# Altium footprint library Pathos.PcbLib: 67 footprints (part 2 of 5)
Each footprint in its own frame and in the unit in brackets; x right, y up, seen from the top. Pads: shape width x height; smd on the part's side, far side on the other; paste and mask are expansions set on the pad; w line width, h text height; cw(c..) or ccw(c..) is an arc to the next point about the centre after c.
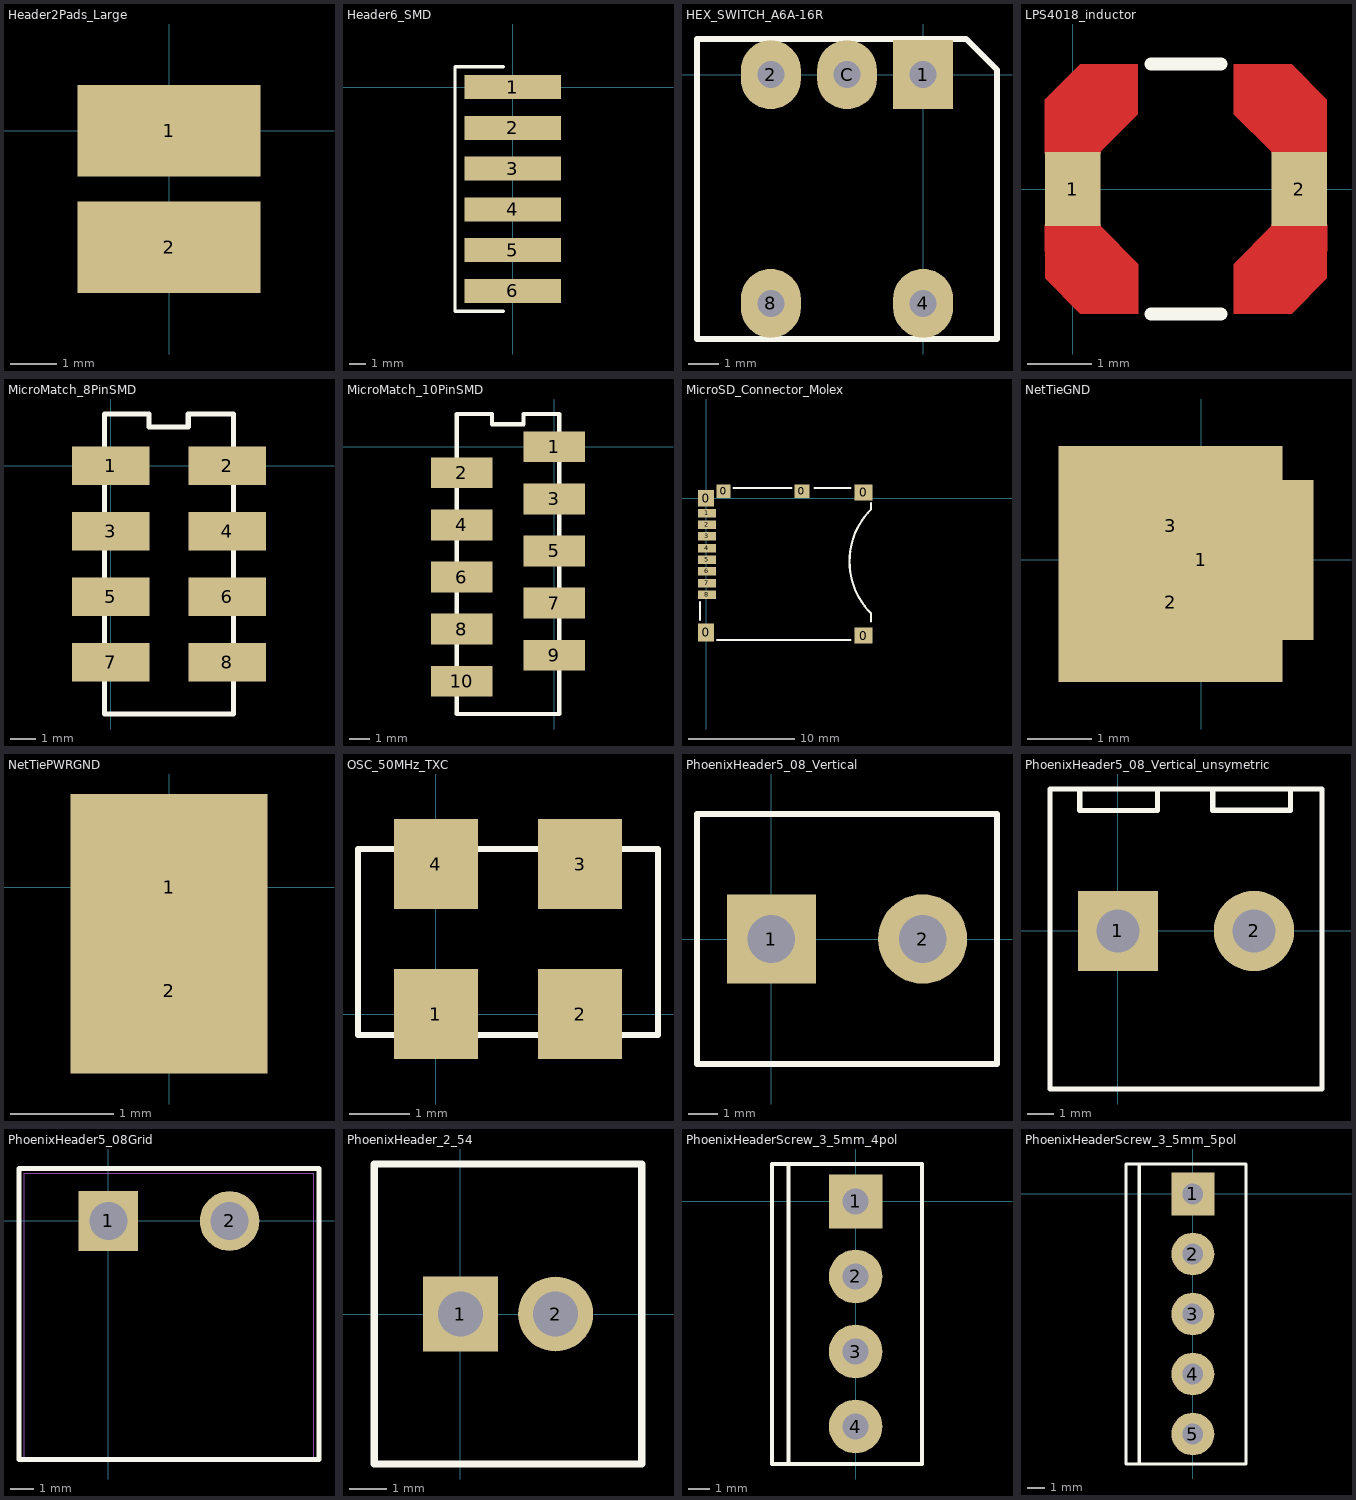
[diagram p1: the footprints below, top view; thin cyan lines are the x and y axes]

## Header2Pads_Large [mm]
pads (2):
  rect 4x2 smd: 1(0,0) 2(0,-2.54)

## Header6_SMD [mm]
pads (6):
  rect 6x1.5 smd: 1(0,0) 2(0,-2.54) 3(0,-5.08) 4(0,-7.62) 5(0,-10.16) 6(0,-12.7)
Top Overlay:
  lines w0.2: -0.6,-13.97 -3.6,-13.97 -3.6,1.27 -0.6,1.27
3D body: height 10, standoff 0, extent -3.6,-13.97 -0.6,1.27

## HEX_SWITCH_A6A-16R [mm]
pads (5):
  rect 2x2.3 hole 0.9: 1(0,0)
  oval 2x2.3 hole 0.9: 2(-5.08,0) 4(0,-7.62) 8(-5.08,-7.62) C(-2.54,0)
Top Overlay:
  lines w0.2: -7.54,-8.81 -7.54,1.19 1.433,1.19 2.46,0.163 2.46,-8.81 -7.54,-8.81

## LPS4018_inductor [mm]
pads (2):
  rect 0.87x1.15 smd: 1(0,0) 2(3.53,0)
Top Layer:
  region: 3.962,0.575 3.962,1.395 3.412,1.945 2.512,1.945 2.512,1.17 3.092,0.59 3.092,0.575
  region: 3.965,-0.559 3.962,-1.395 3.412,-1.945 2.512,-1.945 2.512,-1.17 3.095,-0.584 3.095,-0.559
  region: -0.435,0.559 -0.435,1.395 0.115,1.945 1.015,1.945 1.015,1.17 0.435,0.59 0.435,0.559
  region: -0.435,-0.559 -0.432,-1.395 0.118,-1.945 1.018,-1.945 1.018,-1.17 0.435,-0.584 0.435,-0.559
Top Overlay:
  lines w0.2: 1.219,-1.95 2.311,-1.95 ; 1.219,1.95 2.311,1.95
3D body: height 1.7, standoff 0, extent -0.185,-1.956 3.715,1.95

## MicroMatch_8PinSMD [mm]
pads (8):
  rect 3x1.5 smd: 1(0,0) 2(4.5,0) 3(0,-2.54) 4(4.5,-2.54) 5(0,-5.08) 6(4.5,-5.08) 7(0,-7.62) 8(4.5,-7.62)
Top Overlay:
  lines w0.2: 1.473,1.499 1.473,2 -0.25,2 -0.25,-9.62 4.75,-9.62 4.75,2 2.998,2 2.998,1.499 1.501,1.499
3D body: height 5.3, standoff 0, extent -0.25,-9.62 4.75,2

## MicroMatch_10PinSMD [mm]
pads (10):
  rect 3x1.5 smd: 1(0,0) 2(-4.5,-1.27) 3(0,-2.54) 4(-4.5,-3.81) 5(0,-5.08) 6(-4.5,-6.35) 7(0,-7.62) 8(-4.5,-8.89) 9(0,-10.16) 10(-4.5,-11.43)
Top Overlay:
  lines w0.2: -1.53,1.099 -3.027,1.099 -3.027,1.6 -4.75,1.6 -4.75,-13.03 0.25,-13.03 0.25,1.6 -1.502,1.6 -1.502,1.099
3D body: height 5.3, standoff 0, extent -4.75,-13.03 0.25,1.6

## MicroSD_Connector_Molex [mm]
pads (14):
  rect 1.5x1.7 smd: 0(0,-12.65)
  rect 1.5x1.6 smd: 0(0,0)
  rect 1.3x1.29 smd: 0(1.65,0.655)
  rect 1.4x1.29 smd: 0(9.05,0.655)
  rect 1.7x1.5 smd: 0(14.85,-12.95) 0(14.85,0.55)
  rect 1.68x0.8 smd: 1(0.09,-1.4) 2(0.09,-2.5) 3(0.09,-3.6) 4(0.09,-4.7) 5(0.09,-5.8) 6(0.09,-6.9) 7(0.09,-8) 8(0.09,-9.1)
Top Overlay:
  lines w0.2: -0.559,-11.481 -0.559,-9.781 ; 1.041,-13.35 13.64,-13.35 ; 2.616,0.95 8.077,0.95 ; 10.211,0.95 13.614,0.95 ; 15.57,-11.608 15.57,-10.871 cw(c20.485,-5.956) 15.57,-1.041 15.57,-0.457
3D body: height 1.8, standoff 0, extent -0.559,-13.335 15.57,0.94

## NetTieGND [mm]
pads (3):
  rect 3.5x2.5 smd: 1(0,0) 2(-0.483,-0.66) 3(-0.483,0.533)

## NetTiePWRGND [mm]
pads (2):
  rect 1.9x1.8 smd: 1(0,0)
  rect 1.9x1.6 smd: 2(0,-1)

## OSC_50MHz_TXC [mm]
pads (4):
  rect 1.4x1.5 smd: 1(0,0) 2(2.4,0) 3(2.4,2.5) 4(0,2.5)
Top Overlay:
  lines w0.1: -1.3,-0.35 3.7,-0.35 3.7,2.75 -1.3,2.75 -1.3,-0.35

## PhoenixHeader5_08_Vertical [mm]
pads (2):
  rect 3x3 hole 1.6: 1(0,0)
  round 3 hole 1.6: 2(5.08,0)
Top Overlay:
  lines w0.2: -2.5,-4.2 -2.5,4.2 7.58,4.2 7.58,-4.2 -2.5,-4.2

## PhoenixHeader5_08_Vertical_unsymetric [mm]
pads (2):
  rect 3x3 hole 1.6: 1(0,0)
  round 3 hole 1.6: 2(5.08,0)
Top Overlay:
  lines w0.2: -1.433,5.3 -1.433,4.496 1.477,4.496 1.477,5.283 ; 3.532,5.3 3.532,4.513 6.442,4.513 6.442,5.3 ; -2.54,-5.9 7.62,-5.9 7.62,5.3 -2.54,5.3 -2.54,-5.9
3D body: height 18, standoff 0, extent -2.54,-5.9 7.62,5.3

## PhoenixHeader5_08Grid [mm]
pads (2):
  rect 2.5x2.5 hole 1.6: 1(0,0)
  round 2.5 hole 1.6: 2(5.08,0)
Top Overlay:
  lines w0.2: -3.75,-10 -3.75,2.2 8.83,2.2 8.83,-10 -3.75,-10
Mechanical 2:
  lines w0.001: -3.54,-10 -3.54,2 8.62,2 8.62,-10 -3.54,-10
3D body: height 8.37, standoff -3.48, extent -3.7,-10 8.28,2

## PhoenixHeader_2_54 [mm]
pads (2):
  rect 2x2 hole 1.2: 1(0,0)
  round 2 hole 1.2: 2(2.54,0)
Top Overlay:
  lines w0.2: -2.3,-4 -2.3,4 4.84,4 4.84,-4 -2.3,-4
3D body: height 8.5, standoff 0, extent -2.3,-4 4.84,4

## PhoenixHeaderScrew_3_5mm_4pol [mm]
pads (4):
  rect 2.5x2.5 hole 1.2: 1(0,0)
  round 2.5 hole 1.2: 2(0,-3.5) 3(0,-7) 4(0,-10.5)
Top Overlay:
  lines w0.2: -3.134,-12.25 -3.134,1.75 ; -3.9,-12.25 3.1,-12.25 3.1,1.75 -3.9,1.75 -3.9,-12.25
3D body: height 9.2, standoff 0, extent -3.9,-12.25 3.1,1.75

## PhoenixHeaderScrew_3_5mm_5pol [mm]
pads (5):
  rect 2.5x2.5 hole 1.2: 1(0,0)
  round 2.5 hole 1.2: 2(0,-3.5) 3(0,-7) 4(0,-10.5) 5(0,-14)
Top Overlay:
  lines w0.2: -3.134,-15.75 -3.134,1.75 ; -3.9,-15.75 -3.9,1.75 3.1,1.75 3.1,-15.75 -3.9,-15.75
3D body: height 9.2, standoff 0, extent -3.9,-15.75 3.1,1.75